# EAGLE library part INSTAMP (library impedance)
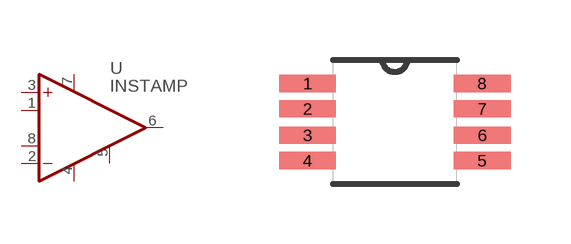
[diagram p1: symbol with the pads of SOP65P490X110-8N; footprint SOP65P490X110-8N]

Designator prefix -

## INSTAMP_PSOP8  [SOP65P490X110-8N]
1  R1_A  in
2  -IN  in
3  +IN  in
4  V-  in
5  R2  in
6  OUT  out
7  V+  in
8  R1_B  in

## Footprint SOP65P490X110-8N (pad centres in mm)
smd 1.422 x 0.432: 1 -2.184,0.965; 2 -2.184,0.33; 3 -2.184,-0.33; 4 -2.184,-0.965; 5 2.184,-0.965; 6 2.184,-0.33; 7 2.184,0.33; 8 2.184,0.965